# EAGLE library part LM555CN (library SamacSys_Parts)
ON Semiconductor LM555CN, Timer, 4.5 16 V, 8-Pin PDIP Source: Datasheet <https://www.mouser.com/datasheet/2/308/LM555-1124984.pdf>
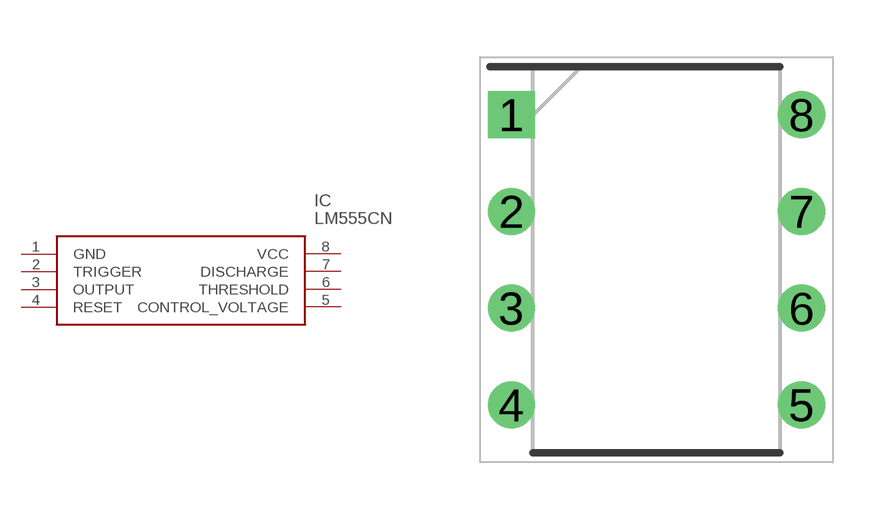
[diagram p1: symbol with the pads of DIP762W53P254L980H533Q8N; footprint DIP762W53P254L980H533Q8N]

Designator prefix IC

## LM555CN (Description: ON Semiconductor LM555CN, Timer, 4.5 16 V, 8-Pin PDIP; Height: 5.33mm; Manufacturer_Name: ON Semiconductor; Manufacturer_Part_Number: LM555CN; Mouser_Part_Number: 512-LM555CN)  [DIP762W53P254L980H533Q8N]
1  GND
2  TRIGGER
3  OUTPUT
4  RESET
5  CONTROL_VOLTAGE
6  THRESHOLD
7  DISCHARGE
8  VCC

## Footprint DIP762W53P254L980H533Q8N (pad centres in mm)
8-DIP
drill 0.73 pad 1.13 square: 1 -3.81,3.81
drill 0.73 pad 1.13: 2 -3.81,1.27; 3 -3.81,-1.27; 4 -3.81,-3.81; 5 3.81,-3.81; 6 3.81,-1.27; 7 3.81,1.27; 8 3.81,3.81